# Altium schematic symbol library Capasitor Tantal.SchLib: 2 symbols
Pins are listed as number, name and electrical type; pins without a type are passive.

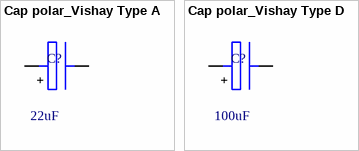
[diagram p0: symbols Cap polar_Vishay Type A to Cap polar_Vishay Type D]

## Cap polar_Vishay Type A
designator C?  value 22uF  (hidden comment: Cap polar_Vishay Type A)
Capacitor 22uF 6.3V; Published: 17-Mar-2010; Publisher: Sergeev
simulation model Model Name (Model Description)
signal-integrity model Model Name (Model Description)
footprint 3216 - Type A (Capacitor, SM Tantalum; Body 3.2 x 1.6 mm (LxW typ))
footprint 3216 - Type A - wa (Capacitor, SM Tantalum; Body 3.2 x 1.6 mm (LxW typ))
pins: 1, 2
text: +

## Cap polar_Vishay Type D
designator C?  value 100uF  (hidden comment: Cap polar_Vishay Type D)
Capacitor (Model Sergeev); Published: 17-Mar-2010; Publisher: Sergeev
footprint 7343 - Type D (Capacitor, SM Tantalum; Body 7.3 x 4.3 mm (LxW typ))
simulation model Model Name (Model Description)
signal-integrity model Model Name (Model Description)
pins: 1, 2
text: +